# Altium schematic symbol library ZXCT1109SA-7.Schlib: 1 symbol
Pins are listed as number, name and electrical type; pins without a type are passive.

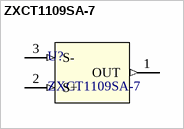
[diagram p0: symbol ZXCT1109SA-7]

## ZXCT1109SA-7
designator U?
LOW POWER HIGH-SIDE CURRENT MONITORS
pins: 1 OUT (out), 2 S+ (in), 3 S- (in)